# Altium schematic symbol library STM32.SchLib: 1 symbol
Pins are listed as number, name and electrical type; pins without a type are passive.

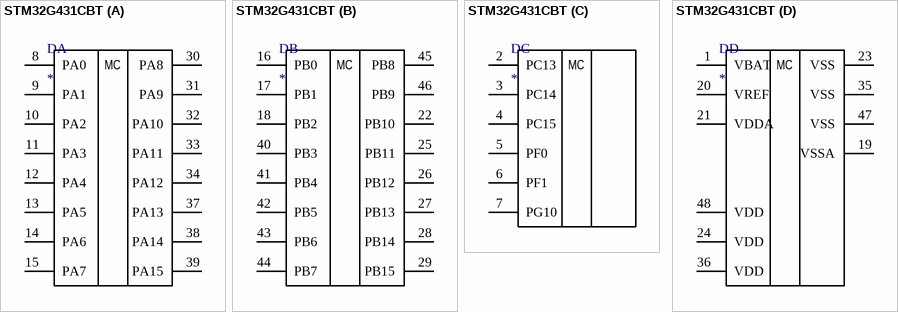
[diagram p0: symbol STM32G431CBT]

## STM32G431CBT
designator D
Arm® Cortex®-M4 32-bit MCU+FPU, 170 MHz /213 DMIPS, / up to 128 KB Flash, 32 KB SRAM, rich analog, math accelerator
footprint LQPF48 (TSQFP, 48-Leads, Body 7,00x7,00mm, Pitch 0,50mm, IPC Medium Density)
part A pins: 8 PA0, 9 PA1, 10 PA2, 11 PA3, 12 PA4, 13 PA5, 14 PA6, 15 PA7, 30 PA8, 31 PA9, 32 PA10, 33 PA11, 34 PA12, 37 PA13, 38 PA14, 39 PA15
part B pins: 16 PB0, 17 PB1, 18 PB2, 22 PB10, 25 PB11, 26 PB12, 27 PB13, 28 PB14, 29 PB15, 40 PB3, 41 PB4, 42 PB5, 43 PB6, 44 PB7, 45 PB8, 46 PB9
part C pins: 2 PC13, 3 PC14, 4 PC15, 5 PF0, 6 PF1, 7 PG10
part D pins: 1 VBAT, 19 VSSA, 20 VREF, 21 VDDA, 23 VSS, 24 VDD, 35 VSS, 36 VDD, 47 VSS, 48 VDD
part A text: MC
part B text: MC
part C text: MC
part D text: MC